# EAGLE library part TCA6424A (library 1)
TCA6424A Low-Voltage 24-Bit I2C and SMBus I/O Expander With Interrupt Output, Reset, and Configuration Registers
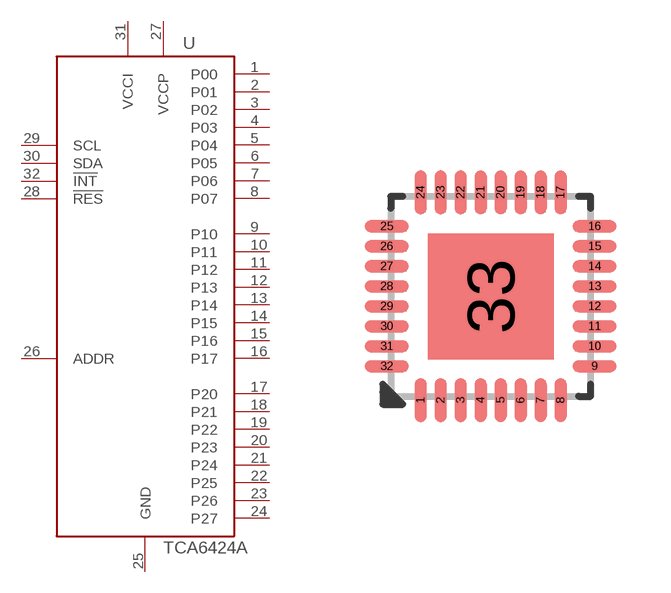
[diagram p44: symbol with the pads of QFN_5X5MM-32; footprint QFN_5X5MM-32]

Designator prefix U

## TCA6424A  [QFN_5X5MM-32]
1  P00
2  P01
3  P02
4  P03
5  P04
6  P05
7  P06
8  P07
9  P10
10  P11
11  P12
12  P13
13  P14
14  P15
15  P16
16  P17
17  P20
18  P21
19  P22
20  P23
21  P24
22  P25
23  P26
24  P27
25  GND
26  ADDR
27  VCCP
28  !RES
29  SCL
30  SDA
31  VCCI
32  !INT

## Footprint QFN_5X5MM-32 (pad centres in mm)
QFN 5x5mm 32pin
smd 0.3 x 1.1: 1 -1.75,-2.6; 2 -1.25,-2.6; 3 -0.75,-2.6; 4 -0.25,-2.6; 5 0.25,-2.6; 6 0.75,-2.6; 7 1.25,-2.6; 8 1.75,-2.6; 17 1.75,2.6; 18 1.25,2.6; 19 0.75,2.6; 20 0.25,2.6; 21 -0.25,2.6; 22 -0.75,2.6; 23 -1.25,2.6; 24 -1.75,2.6
smd 1.1 x 0.3: 9 2.6,-1.75; 10 2.6,-1.25; 11 2.6,-0.75; 12 2.6,-0.25; 13 2.6,0.25; 14 2.6,0.75; 15 2.6,1.25; 16 2.6,1.75; 25 -2.6,1.75; 26 -2.6,1.25; 27 -2.6,0.75; 28 -2.6,0.25; 29 -2.6,-0.25; 30 -2.6,-0.75; 31 -2.6,-1.25; 32 -2.6,-1.75
smd 3.15 x 3.15: 33 0,0